# Altium schematic symbol library RyanMasterLib.SchLib: 35 symbols
Pins are listed as number, name and electrical type; pins without a type are passive.

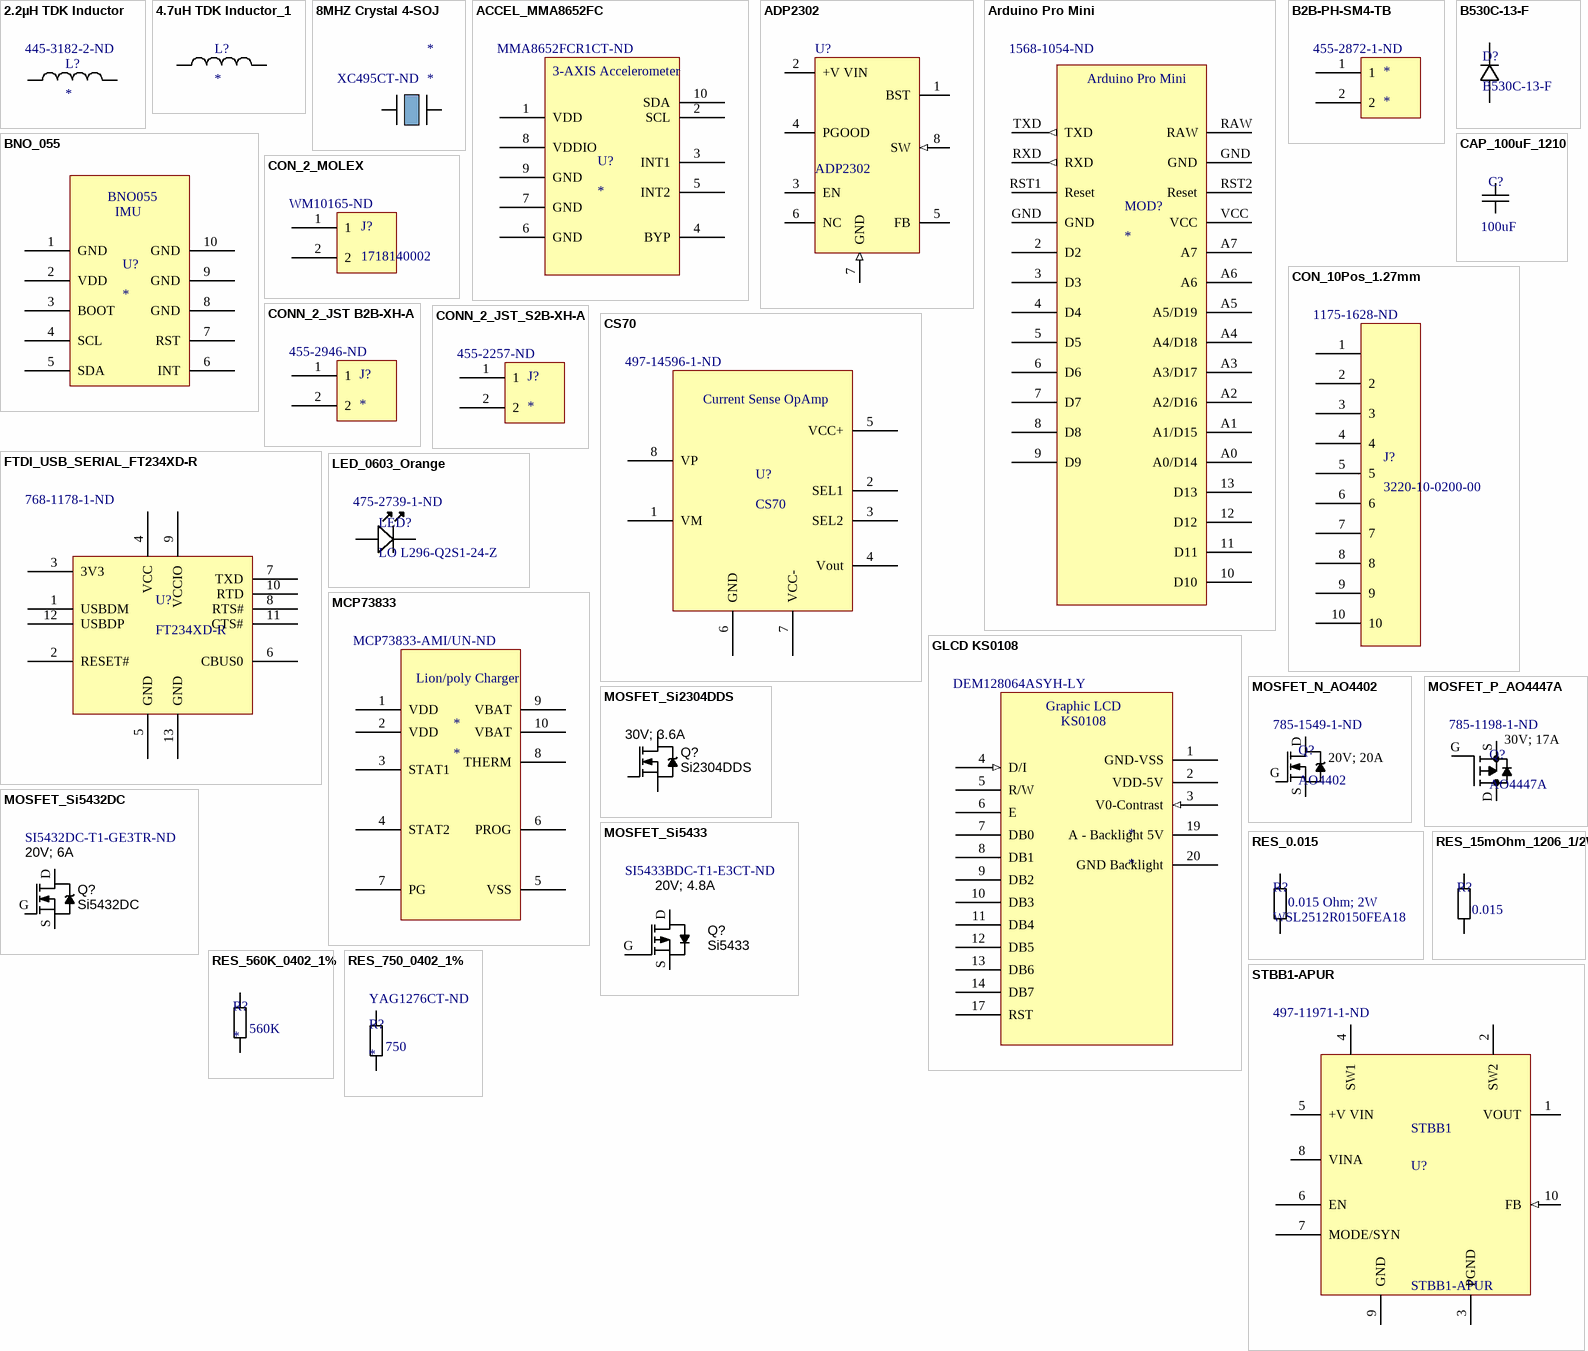
[diagram p0: symbols 2.2µH TDK Inductor to STBB1-APUR]

## 2.2µH TDK Inductor
designator L?  Supplier Part Number 1: 445-3182-2-ND
2.2µH TDK Inductor; Supplier 1: Digi-Key
footprint VLCF4020
pins: 1, 2

## 4.7uH TDK Inductor_1
designator L?
4.7uH TDK Inductor; Supplier 1: Digi-Key
footprint 4.7uH TDK Inductor
pins: 1, 2

## 8MHZ Crystal 4-SOJ
designator *  Supplier Part Number 1: XC495CT-ND
Supplier 1: Digi-Key
footprint 4-SOJ
pins: 1, 4 2

## ACCEL_MMA8652FC
designator U?  Supplier Part Number 1: MMA8652FCR1CT-ND
MMA8652FC 3-Axis, 12-bit Digital  Accelerometer; Supplier 1: Digi-Key
footprint DFN10_2X2
pins: 1 VDD, 2 SCL, 3 INT1, 4 BYP, 5 INT2, 6 GND, 7 GND, 8 VDDIO, 9 GND, 10 SDA
text: 3-AXIS Accelerometer

## ADP2302
designator U?
Voltage Regulators - Switching Regulators 2A 700KHz NonSync Step-Down; Published: 8-Jun-2000; LatestRevisionDate: 13-Apr-2006; LatestRevisionNote: IPC-7351 Footprint Added.; DatasheetVersion: REV.0 1997; PackageVersion: revA; PackageReference: SO-8; Publisher: Altium Limited; PackageDescription: 8-Pin Small Outline Integrated Circuit 1.27 mm Pitch; Code_JEDEC: MS-012-AA; Code_IPC: SOIC127P600-8; ComponentLink1Description: Manufacturer Link; ComponentLink1URL: http://www.analog.com/en/prod/0%2C2877%2CADP3000%2C00.html; ComponentLink2Description: Datasheet; ComponentLink2URL: http://www.analog.com/UploadedFiles/Data_Sheets/421574674ADP3000_a.pdf
footprint SO-8_N (SOIC, 8-Leads, Body 4.9x3.9mm, Pitch 1.27mm, IPC Medium Density)
footprint SO-8_L (SOIC, 8-Leads, Body 4.9x3.9mm, Pitch 1.27mm, IPC High Density)
footprint SO-8_M (SOIC, 8-Leads, Body 4.9x3.9mm, Pitch 1.27mm, IPC Low Density)
footprint SO-8_M High Power (SOIC, 8-Leads, Body 4.9x3.9mm, Pitch 1.27mm, IPC Low Density)
pins: 1 BST, 2 +V VIN (power), 3 EN, 4 PGOOD, 5 FB (power), 6 NC (oc), 7 GND (in), 8 SW (in)

## Arduino Pro Mini
designator MOD?  Supplier Part Number 1: 1568-1054-ND
Supplier 1: Digi-Key
footprint Arduino Pro Mini
footprint Arduino Pro Mini Footprint
pins: 2 D2, 3 D3, 4 D4, 5 D5, 6 D6, 7 D7, 8 D8, 9 D9, 10 D10, 11 D11, 12 D12, 13 D13, A0 A0/D14, A1 A1/D15, A2 A2/D16, A3 A3/D17, A4 A4/D18, A5 A5/D19, A6, A7, GND, GND, RAW, RST1 Reset, RST2 Reset, RXD (out), TXD (out), VCC

## B2B-PH-SM4-TB
designator *  Supplier Part Number 1: 455-2872-1-ND
CONN HEADER PH TOP 2POS 2MM SMD; Supplier 1: Digi-Key
footprint JST-PH 2
footprint CONN_JST_XT_TH_2 (CONN HEADER XH TOP 2POS 2.5MM)
pins: 1, 2

## B530C-13-F
designator D?
DIODE SCHOTTKY 30V 5A SMC; Supplier 1: Digi-Key; Supplier Part Number 1: B530C-FDICT-ND
footprint DO-214AB (JEDEC DO214 variation AB. SMC)
pins: A, K

## BNO_055
designator U?
9-axis motion sensor with hardware fusion
footprint BNO-055 (9-axis motion sensor with hardware fusion)
pins: 1 GND, 2 VDD, 3 BOOT, 4 SCL, 5 SDA, 6 INT, 7 RST, 8 GND, 9 GND, 10 GND
text: BNO055; IMU

## CAP_100uF_1210
designator C?, comment value 100uF  (hidden comment: 6R3S41X107MV4E)
CAP CER 100UF 6.3V X5R 1210; Supplier 1: Digi-Key; Supplier Part Number 1: 709-1079-1-ND
footprint CAP 1210 (Chip Capacitor, Body 3.2x2.5mm, EIA 1210, IPC Medium Density)
pins: 1, 2

## CON_2_MOLEX
designator J?, comment 1718140002  Supplier Part Number 1: WM10165-ND
KK RPC 100 HDR FRLK RTAN 02 CKT; Supplier 1: Digi-Key
footprint CON_MOL_KK_2 (KK RPC 100 HDR FRLK RTAN 02 CKT)
pins: 1, 2

## CON_10Pos_1.27mm
designator J?, comment 3220-10-0200-00  Supplier Part Number 1: 1175-1628-ND
BOX HEADER, 0.050 10 POS; Supplier 1: Digi-Key
footprint CON_1.27mm_10POS_Right (BOX HEADER, 0.050 10 POS)
pins: 1, 2, 3, 4, 5, 6, 7, 8, 9, 10

## CONN_2_JST B2B-XH-A
designator J?  Supplier Part Number 1: 455-2946-ND
CONN HEADER XH SIDE 2POS 2.5MM; Supplier 1: Digi-Key
footprint CONN_JST_XT_TH_2 (CONN HEADER XH TOP 2POS 2.5MM)
pins: 1, 2

## CONN_2_JST_S2B-XH-A
designator J?  Supplier Part Number 1: 455-2257-ND
CONN HEADER XH SIDE 2POS 2.5MM; Supplier 1: Digi-Key
footprint CONN_JST_XH_TH_RIGHT_2 (CONN HEADER XH TOP 2POS 2.5MM)
pins: 1, 2

## CS70
designator U?  Supplier Part Number 1: 497-14596-1-ND
ST CS70 Programmable Gain Current Sense; Supplier 1: Digi-Key
footprint TSSOP65P640X120-8N (TSSOP, 8 Leads, Body 3.1x4.5mm (max), Pitch 0.65mm, IPC Medium Density)
pins: 1 VM, 2 SEL1, 3 SEL2, 4 Vout, 5 VCC+, 6 GND, 7 VCC-, 8 VP
text: Current Sense OpAmp

## FTDI_USB_SERIAL_FT234XD-R
designator U?, comment FT234XD-R  Supplier Part Number 1: 768-1178-1-ND
IC USB SERIAL BASIC UART 12DFN; Supplier 1: Digi-Key
footprint DFN12 3x3
pins: 1 USBDM, 2 RESET#, 3 3V3, 4 VCC, 5 GND, 6 CBUS0, 7 TXD, 8 RTS#, 9 VCCIO, 10 RTD, 11 CTS#, 12 USBDP, 13 GND

## GLCD KS0108
designator *  Supplier Part Number 1: DEM128064ASYH-LY
Supplier 1: TME
footprint GLCD KS0108
pins: 1 GND-VSS (power), 2 VDD-5V (power), 3 V0-Contrast (in), 4 D/I (in), 5 R/W, 6 E, 7 DB0, 8 DB1, 9 DB2, 10 DB3, 11 DB4, 12 DB5, 13 DB6, 14 DB7, 17 RST, 19 A - Backlight 5V (power), 20 GND Backlight
text: Graphic LCD; KS0108

## LED_0603_Orange
designator LED?, comment LO L296-Q2S1-24-Z  Supplier Part Number 1: 475-2739-1-ND
LED ORANGE DIFFUSED 0603 SMD; Supplier 1: Digi-Key
footprint LED-0603-AMBER
pins: A, K

## MCP73833
designator *  Supplier Part Number 1: MCP73833-AMI/UN-ND
MCP73833 Stand-Alone Linear Li-Ion / Li-Polymer Charge  Management Controller; Supplier 1: Digi-Key
footprint 10MSOP (TSSOP, 10 Leads, Body 3.7x4.5mm (max), Pitch 0.65mm, IPC Medium Density)
footprint DFN10_HP
pins: 1 VDD, 2 VDD, 3 STAT1, 4 STAT2, 5 VSS, 6 PROG, 7 PG, 8 THERM, 9 VBAT, 10 VBAT
text: Lion/poly Charger

## MOSFET_N_AO4402
designator Q?, comment AO4402  Rating: 20V; 20A  Supplier Part Number 1: 785-1549-1-ND
MOSFET N-CH 20V 20A 8SOIC; Supplier 1: Digi-Key
footprint SOIC-8_FET (SOIC, 8-Leads with thermal tab, Body 4.9x3.9mm, Pitch 1.27mm, IPC Medium Density)
pins: D, G, S

## MOSFET_P_AO4447A
designator Q?, comment AO4447A  Rating: 30V; 17A  Supplier Part Number 1: 785-1198-1-ND
MOSFET P-CH 30V 17A 8-SOIC; Supplier 1: Digi-Key
footprint SOIC-8_FET (SOIC, 8-Leads with thermal tab, Body 4.9x3.9mm, Pitch 1.27mm, IPC Medium Density)
pins: D, G, S

## MOSFET_Si2304DDS
designator Q?, comment Si2304DDS  Ratings: 30V; 3.6A
MOSFET SMD N-CH 30V 3.6A 1.7W SOT23-3; Material: Metal Oxide; SCDType: source; Package / Case: SOT23-3; Supplier 1: Digi-Key; Supplier Part Number 1: SI2304DDS-T1-GE3CT-ND
footprint SOT23-3 (SOT23, 3 pin)
footprint SOT23-3  High Power (SOT23, 3 pin)
pins: 1 G, 2 S, 3 D

## MOSFET_Si5432DC
designator Q?, comment Si5432DC  Ratings: 20V; 6A  Supplier Part Number 1: SI5432DC-T1-GE3TR-ND
MOSFET N-CH 20V 6A 1206-8; Material: Metal Oxide; SCDType: source; Package / Case: SOT23-3; Supplier 1: Digi-Key
footprint 1206-8 ChipFET
pins: D, G, S

## MOSFET_Si5433
designator Q?, comment Si5433  Ratings: 20V; 4.8A  Supplier Part Number 1: SI5433BDC-T1-E3CT-ND
MOSFET P-CH 20V 4.8A 1206-8; Material: Metal Oxide; SCDType: source; Package / Case: SOT23-3; Supplier 1: Digi-Key
footprint 1206-8 ChipFET
pins: D, G, S

## RES_0.015
designator R?, comment WSL2512R0150FEA18  Rating: 0.015 Ohm; 2W
RES SMD 0.015 OHM 1% 2W 2512; Supplier 1: Digi-Key; Supplier Part Number 1: WSLH-.015CT-ND
footprint RESC_2512
pins: 1, 2

## RES_15mOhm_1206_1/2W
designator R?, comment value 0.015  (hidden comment: 2176055-5)
RES SMD 0.015 OHM 1% 1/2W 1206; Supplier 1: Digi-Key
footprint RESC1206 (Chip Resistor, Body 3.2x1.6mm, 1206, IPC Medium Density)
pins: 1, 2

## RES_560K_0402_1%
designator R?  value 560K
Resistor SMD chip 560k Ohm 0.063W 1% 0402; Supplier 1: Digi-Key; Supplier Part Number 1: 311-560KLRCT-ND
footprint RESC1005X40N (Chip Resistor, Body 1.0x0.5mm, EIA 0402, IPC Medium Density)
pins: 1, 2 1

## RES_750_0402_1%
designator R?  value 750  Supplier Part Number 1: YAG1276CT-ND
Resistor SMD chip 750 Ohm 0.063W 1% 0402; Supplier 1: Digi-Key
footprint RESC1005X40N (Chip Resistor, Body 1.0x0.5mm, EIA 0402, IPC Medium Density)
pins: 1, 2 1

## STBB1-APUR
designator U?  Supplier Part Number 1: 497-11971-1-ND
Voltage Regulators - Switching Regulators; Published: 8-Jun-2000; LatestRevisionDate: 13-Apr-2006; LatestRevisionNote: IPC-7351 Footprint Added.; DatasheetVersion: REV.0 1997; PackageVersion: revA; PackageReference: SO-8; Publisher: Altium Limited; PackageDescription: 8-Pin Small Outline Integrated Circuit 1.27 mm Pitch; Code_JEDEC: MS-012-AA; Code_IPC: SOIC127P600-8; ComponentLink1Description: Manufacturer Link; ComponentLink1URL: http://www.digikey.com/product-detail/en/STBB1-APUR/497-11971-1-ND/2772276; ComponentLink2Description: Datasheet; ComponentLink2URL: http://www.analog.com/UploadedFiles/Data_Sheets/421574674ADP3000_a.pdf; Supplier 1: Digi-Key
footprint DFN10_HP
pins: 1 VOUT (power), 2 SW2, 3 PGND (oc), 4 SW1, 5 +V VIN (power), 6 EN, 7 MODE/SYN, 8 VINA, 9 GND, 10 FB (in)
text: STBB1

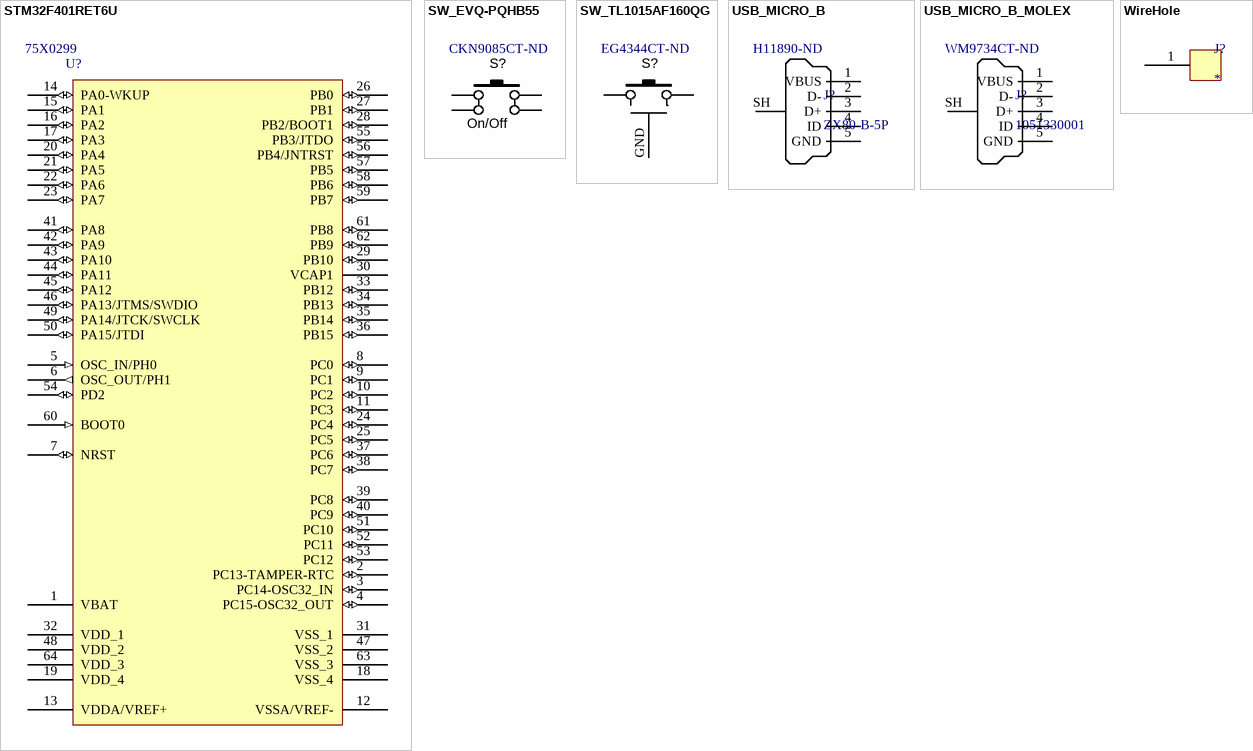
[diagram p1: symbols STM32F401RET6U to WireHole]

## STM32F401RET6U
designator U?  Supplier Part Number 1: 75X0299
STM32 ARM-based 32-bit MCU with 128 Kbytes Flash, 64-pin LQFP, Industrial Temperature; Published: 30-May-2008; DatasheetVersion: rev6, Mar-2008; PackageVersion: Mar-2008; PackageReference: LQFP64; Publisher: Altium Limited; PackageDescription: 64-Pin Low-Profile Quad Flat Pack, 10 x 10 mm Body, 0.5 mm Pitch (LQFP64); ComponentLink1Description: Manufacturer Link; ComponentLink1URL: www.st.com/stm32; ComponentLink2Description: Datasheet; ComponentLink2URL: http://www.st.com/stonline/products/literature/ds/13587.pdf; Supplier 1: Newark
footprint LQFP64_N (Thin QFP, 64-Leads, Body 10x10mm, Pitch 0.5mm, IPC Medium Density)
footprint LQFP64_L (Thin QFP, 64-Leads, Body 10x10mm, Pitch 0.5mm, IPC High Density)
footprint LQFP64_M (Thin QFP, 64-Leads, Body 10x10mm, Pitch 0.5mm, IPC Low Density)
pins: 1 VBAT (power), 2 PC13-TAMPER-RTC (io), 3 PC14-OSC32_IN (io), 4 PC15-OSC32_OUT (io), 5 OSC_IN/PH0 (in), 6 OSC_OUT/PH1 (out), 7 NRST (io), 8 PC0 (io), 9 PC1 (io), 10 PC2 (io), 11 PC3 (io), 12 VSSA/VREF- (power), 13 VDDA/VREF+ (power), 14 PA0-WKUP (io), 15 PA1 (io), 16 PA2 (io), 17 PA3 (io), 18 VSS_4 (power), 19 VDD_4 (power), 20 PA4 (io), 21 PA5 (io), 22 PA6 (io), 23 PA7 (io), 24 PC4 (io), 25 PC5 (io), 26 PB0 (io), 27 PB1 (io), 28 PB2/BOOT1 (io), 29 PB10 (io), 30 VCAP1 (power), 31 VSS_1 (power), 32 VDD_1 (power), 33 PB12 (io), 34 PB13 (io), 35 PB14 (io), 36 PB15 (io), 37 PC6 (io), 38 PC7 (io), 39 PC8 (io), 40 PC9 (io), 41 PA8 (io), 42 PA9 (io), 43 PA10 (io), 44 PA11 (io), 45 PA12 (io), 46 PA13/JTMS/SWDIO (io), 47 VSS_2 (power), 48 VDD_2 (power), 49 PA14/JTCK/SWCLK (io), 50 PA15/JTDI (io), 51 PC10 (io), 52 PC11 (io), 53 PC12 (io), 54 PD2 (io), 55 PB3/JTDO (io), 56 PB4/JNTRST (io), 57 PB5 (io), 58 PB6 (io), 59 PB7 (io), 60 BOOT0 (in), 61 PB8 (io), 62 PB9 (io), 63 VSS_3 (power), 64 VDD_3 (power)

## SW_EVQ-PQHB55
designator S?, comment Function: On/Off  Supplier Part Number 1: CKN9085CT-ND  (hidden comment: PTS645SH50SMTR92 LFS)
Low-profile captive tact switch; Ratings: 1.6 Newton; Switch Function: Off-Mom; Contact Rating @ Voltage: 0.02A @ 15VDC; Outline: 4.50mm x 4.50mm; Operating Force: 160gf; SCDType: spec; Package / Case: per dwg; Mounting Type: Surface Mount; Orientation: Vertical; ComponentLink1URL: http://www.digikey.com/product-detail/en/PTS645SH50SMTR92%20LFS/CKN9085TR-ND/1162182; ComponentLink1Description: http://www.digikey.com/product-detail/en/PTS645SH50SMTR92%20LFS/CKN9085TR-ND/1162182; Supplier 1: Digi-Key
footprint TL3301NF
pins: 1, 2, 3, 4

## SW_TL1015AF160QG
designator S?, comment Supplier Part Number 1: EG4344CT-ND  (hidden comment: TL1015AF160QG)
SWITCH TACTILE SPST-NO 0.05A 12V; Supplier 1: Digi-Key
footprint TACT_SW_3.9mm_2.9mm
pins: 1, 2, GND

## USB_MICRO_B
designator J?, comment ZX80-B-5P  Supplier Part Number 1: H11890-ND
Connector Receptacle USB - micro B 2.0 5 Position Through Hole, Vertical; Supplier 1: Digi-Key
footprint USB_MICROB_HIROSE
pins: 1 VBUS, 2 D-, 3 D+, 4 ID, 5 GND, SH Shell

## USB_MICRO_B_MOLEX
designator J?, comment 1051330001  Supplier Part Number 1: WM9734CT-ND
n Connector Receptacle USB micro B 5 Position Through Hole, Vertica; Supplier 1: Digi-Key
footprint USB_MICROB_MOLEX
pins: 1 VBUS, 2 D-, 3 D+, 4 ID, 5 GND, SH Shell

## WireHole
designator J?
footprint 16awg Wire Hole
pins: 1